# EAGLE library part 6270XX21621_62704421621 (library Wurth_Connectors_WR-BHD)
WR-BHD 1.27 mm Male Box Header KIND PROPERTIES: Pitch 1.27 mm Gender:Male MATERIAL PROPERTIES: Insulator Material Nylon 9T Insulator Flammability Rating UL94 V-0 Insulator Color Black Contact Material Brass Contact Plating Gold over Nickel GENERAL INFORMATION: Operating Temperature -40 up to +105 °C Working Voltage 50 V (AC) Withstanding Voltage 500 V (AC) Contact Resistance 20 mΩ RISO 1000 MΩ CERTIFICATION: UL Approval E323964 <https://www.we-online.com/catalog/media/o375404v209%20Family_WR-BHD_6270xx21621.jpg> Details see: https://www.we-online.com/catalog/en/WR_BHD_1_27_MM_MALE_BOX_HEADER Created by Ella Wu 2021-08-24 2021 (C) Würth Elektronik
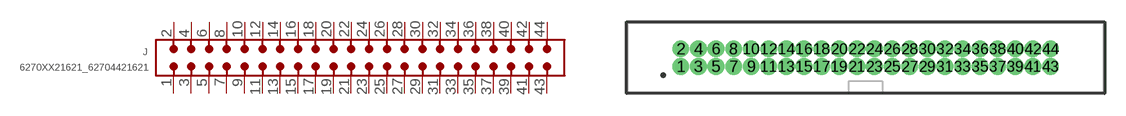
[diagram p114: symbol with the pads of 62704421621; footprint 62704421621]

Designator prefix J

## 6270XX21621_62704421621 (CONTACT-RESISTANCE: 20mOhm; DATASHEET-URL: https://www.we-online.com/redexpert/spec/62704421621?ae; GENDER: Male; IR: 1A; LENGTH: 34.29mm; MOUNT: THT; PART-NUMBER: 62704421621; PINS: 44; PITCH: 1.27mm; TYPE: Straight; VALUE: 62704421621; WORKING-VOLTAGE: 50V(AC))  [62704421621]
1  1  pas
2  2  pas
3  3  pas
4  4  pas
5  5  pas
6  6  pas
7  7  pas
8  8  pas
9  9  pas
10  10  pas
11  11  pas
12  12  pas
13  13  pas
14  14  pas
15  15  pas
16  16  pas
17  17  pas
18  18  pas
19  19  pas
20  20  pas
21  21  pas
22  22  pas
23  23  pas
24  24  pas
25  25  pas
26  26  pas
27  27  pas
28  28  pas
29  29  pas
30  30  pas
31  31  pas
32  32  pas
33  33  pas
34  34  pas
35  35  pas
36  36  pas
37  37  pas
38  38  pas
39  39  pas
40  40  pas
41  41  pas
42  42  pas
43  43  pas
44  44  pas

## Footprint 62704421621 (pad centres in mm)
WR-BHD 1.27mm Male THT Box Header Straight, 44Pins
drill 0.7 pad 1.05: 1 -13.335,-0.635; 2 -13.335,0.635; 3 -12.065,-0.635; 4 -12.065,0.635; 5 -10.795,-0.635; 6 -10.795,0.635; 7 -9.525,-0.635; 8 -9.525,0.635; 9 -8.255,-0.635; 10 -8.255,0.635; 11 -6.985,-0.635; 12 -6.985,0.635; 13 -5.715,-0.635; 14 -5.715,0.635; 15 -4.445,-0.635; 16 -4.445,0.635; 17 -3.175,-0.635; 18 -3.175,0.635; 19 -1.905,-0.635; 20 -1.905,0.635; 21 -0.635,-0.635; 22 -0.635,0.635; 23 0.635,-0.635; 24 0.635,0.635; 25 1.905,-0.635; 26 1.905,0.635; 27 3.175,-0.635; 28 3.175,0.635; 29 4.445,-0.635; 30 4.445,0.635; 31 5.715,-0.635; 32 5.715,0.635; 33 6.985,-0.635; 34 6.985,0.635; 35 8.255,-0.635; 36 8.255,0.635; 37 9.525,-0.635; 38 9.525,0.635; 39 10.795,-0.635; 40 10.795,0.635; 41 12.065,-0.635; 42 12.065,0.635; 43 13.335,-0.635; 44 13.335,0.635